# Altium footprint library SON_50P_N.PcbLib: 3 footprints
Each footprint in its own frame and in the unit in brackets; x right, y up, seen from the top. Pads: shape width x height; smd on the part's side, far side on the other; paste and mask are expansions set on the pad; w line width, h text height; cw(c..) or ccw(c..) is an arc to the next point about the centre after c.
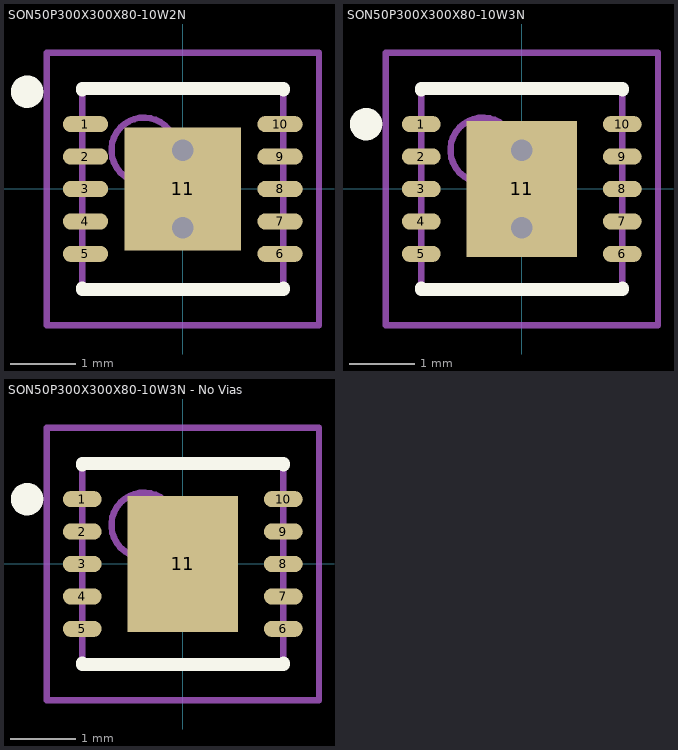
[diagram p0: the footprints below, top view; thin cyan lines are the x and y axes]

## SON50P300X300X80-10W2N [mm] "SON, 10-Leads, Body 3x3 mm, Pitch 0.5mm, IPC Medium Density"
height 0.8
pads (11):
  oval 0.7x0.25 smd: 1(-1.5,1) 2(-1.5,0.5) 3(-1.5,0) 4(-1.5,-0.5) 5(-1.5,-1) 6(1.5,-1) 7(1.5,-0.5) 8(1.5,0) 9(1.5,0.5) 10(1.5,1)
  rect 1.8x1.9 smd: 11(0,0)
via 0,-0.6 diameter 0.66 hole 0.33
via 0,0.6 diameter 0.66 hole 0.33
Top Overlay:
  circle w0.25: c-2.4,1.5 r0.125
  lines w0.2: -1.55,-1.525 -1.55,-1.55 1.55,-1.55 1.55,-1.525 ; -1.55,1.525 -1.55,1.55 1.55,1.55 1.55,1.525
Mechanical 13:
  circle w0.1: c-0.6,0.6 r0.5
  lines w0.1: -1.55,-1.55 -1.55,1.55 1.55,1.55 1.55,-1.55 -1.55,-1.55
Mechanical 15:
  lines w0.1: -0.5,0 0.5,0 ; 0,-0.5 0,0.5 ; -2.1,-2.1 -2.1,2.1 2.1,2.1 2.1,-2.1 -2.1,-2.1
3D body: height 0.8, standoff 0, extent -1.55,-1.55 1.55,1.55

## SON50P300X300X80-10W3N [mm] "SON, 10-Leads, Body 3x3 mm, Pitch 0.5mm, IPC Medium Density"
height 0.8
pads (11):
  oval 0.6x0.25 smd: 1(-1.55,1) 2(-1.55,0.5) 3(-1.55,0) 4(-1.55,-0.5) 5(-1.55,-1) 6(1.55,-1) 7(1.55,-0.5) 8(1.55,0) 9(1.55,0.5) 10(1.55,1)
  rect 1.7x2.1 smd: 11(0,0)
via 0,0.6 diameter 0.66 hole 0.33
via 0,-0.6 diameter 0.66 hole 0.33
Top Overlay:
  circle w0.25: c-2.4,1 r0.125
  lines w0.2: -1.55,-1.525 -1.55,-1.55 1.55,-1.55 1.55,-1.525 ; -1.55,1.525 -1.55,1.55 1.55,1.55 1.55,1.525
Mechanical 13:
  circle w0.1: c-0.6,0.6 r0.5
  lines w0.1: -1.55,-1.55 -1.55,1.55 1.55,1.55 1.55,-1.55 -1.55,-1.55
Mechanical 15:
  lines w0.1: -0.5,0 0.5,0 ; 0,-0.5 0,0.5 ; -2.1,-2.1 -2.1,2.1 2.1,2.1 2.1,-2.1 -2.1,-2.1
3D body: height 0.8, standoff 0, extent -1.55,-1.55 1.55,1.55

## SON50P300X300X80-10W3N - No Vias [mm] "SON, 10-Leads, Body 3x3 mm, Pitch 0.5mm, IPC Medium Density"
height 0.8
pads (11):
  oval 0.6x0.25 smd: 1(-1.55,1) 2(-1.55,0.5) 3(-1.55,0) 4(-1.55,-0.5) 5(-1.55,-1) 6(1.55,-1) 7(1.55,-0.5) 8(1.55,0) 9(1.55,0.5) 10(1.55,1)
  rect 1.7x2.1 smd: 11(0,0)
Top Overlay:
  circle w0.25: c-2.4,1 r0.125
  lines w0.2: -1.55,-1.525 -1.55,-1.55 1.55,-1.55 1.55,-1.525 ; -1.55,1.525 -1.55,1.55 1.55,1.55 1.55,1.525
Mechanical 13:
  circle w0.1: c-0.6,0.6 r0.5
  lines w0.1: -1.55,-1.55 1.55,-1.55 1.55,1.55 -1.55,1.55 -1.55,-1.55
Mechanical 15:
  lines w0.1: -0.5,0 0.5,0 ; 0,-0.5 0,0.5 ; -2.1,-2.1 2.1,-2.1 2.1,2.1 -2.1,2.1 -2.1,-2.1
3D body: height 0.8, standoff 0, extent -1.55,-1.55 1.55,1.55